# Altium schematic symbol library HEADER_2.SchLib: 1 symbol
Pins are listed as number, name and electrical type; pins without a type are passive.

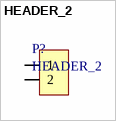
[diagram p0: symbol HEADER_2]

## HEADER_2
designator P?
pins: 1, 2